# Altium footprint library CD4017 counter.PcbLib: 1 footprints
Each footprint in its own frame and in the unit in brackets; x right, y up, seen from the top. Pads: shape width x height; smd on the part's side, far side on the other; paste and mask are expansions set on the pad; w line width, h text height; cw(c..) or ccw(c..) is an arc to the next point about the centre after c.
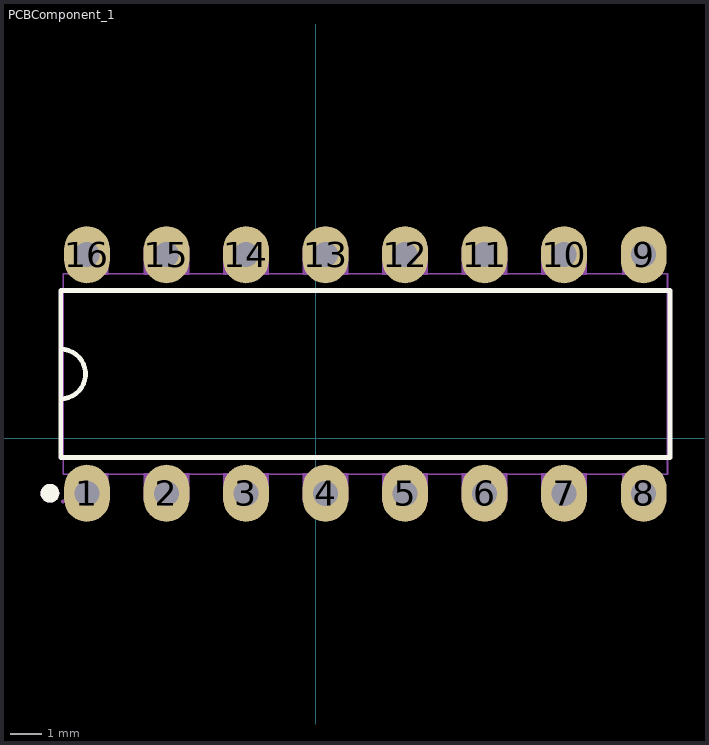
[diagram p0: the footprint, top view; thin cyan lines are the x and y axes]

## PCBComponent_1 [mm]
pads (16):
  oval 1.46x1.825 hole 0.8 paste-2539.97 mask+0.051: 1(-7.304,-1.755) 2(-4.764,-1.755) 3(-2.224,-1.755) 4(0.316,-1.755) 5(2.856,-1.755) 6(5.396,-1.755) 7(7.936,-1.755) 8(10.476,-1.755) 9(10.476,5.865) 10(7.936,5.865) 11(5.396,5.865) 12(2.856,5.865) 13(0.316,5.865) 14(-2.224,5.865) 15(-4.764,5.865) 16(-7.304,5.865)
Top Overlay:
  circle w0.3: c-8.486,-1.755 r0.15
  lines w0.152: -8.142,1.262 ccw(c-8.142,2.055) -8.142,2.849 ; -8.142,-0.613 -8.142,4.724 11.315,4.724 11.315,-0.613 -8.142,-0.613
Mechanical 6:
  circle w0.3: c-8.486,-1.755 r0.15
Mechanical 15:
  drawing of 37 lines, arcs and shapes, not listed